# Altium schematic symbol library REF3450IDBV.SchLib: 1 symbol
Pins are listed as number, name and electrical type; pins without a type are passive.

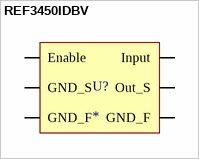
[diagram p0: symbol REF3450IDBV]

## REF3450IDBV
designator U?
pins: 1 GND_F, 2 GND_S, 3 Enable, 4 Input, 5 Out_S, 6 GND_F